# Altium footprint library 3568.PcbLib: 1 footprints
Each footprint in its own frame and in the unit in brackets; x right, y up, seen from the top. Pads: shape width x height; smd on the part's side, far side on the other; paste and mask are expansions set on the pad; w line width, h text height; cw(c..) or ccw(c..) is an arc to the next point about the centre after c.
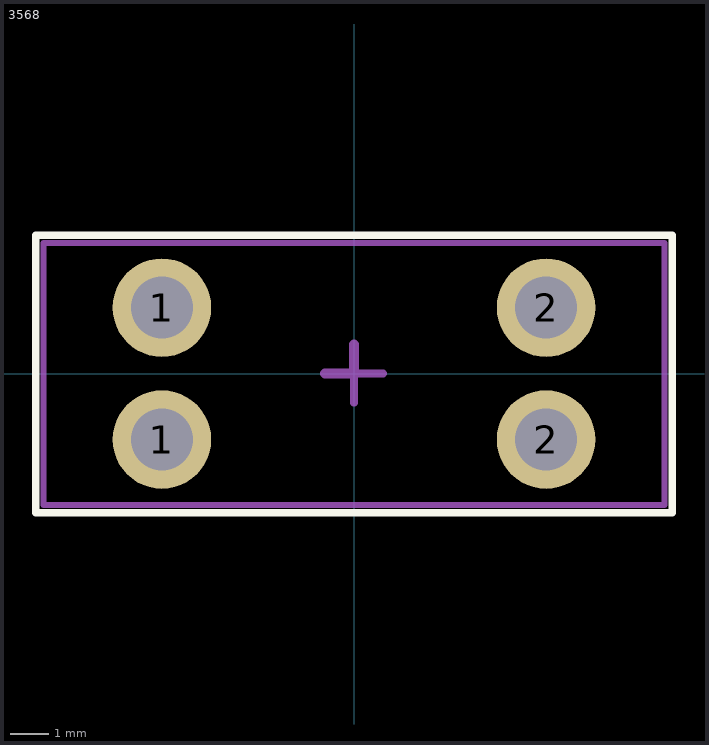
[diagram p0: the footprint, top view; thin cyan lines are the x and y axes]

## 3568 [mm]
pads (4):
  round 2.54 hole 1.6 mask+0.051: 1(-4.95,-1.7) 1(-4.95,1.7) 2(4.95,-1.7) 2(4.95,1.7)
Top Overlay:
  lines w0.2: -8.2,-3.585 8.2,-3.585 ; -8.2,-3.565 -8.2,3.565 8.2,3.565 8.2,-3.565
Mechanical 13:
  lines w0.15: -8,-3.385 8,-3.385 ; -8,-3.365 -8,3.365 8,3.365 8,-3.365
Mechanical 15:
  lines w0.2: -0.75,0 0.75,0 ; 0,-0.75 0,0.75
  lines w0.254: -0.75,0 0,0 0,0.75
3D body "3568--3DModel-STEP-630548.STEP": height 7.39, standoff -2.77, extent -7.994,-3.381 8.008,3.35